# Altium footprint library TMP112AIDRLR.PcbLib: 1 footprints
Each footprint in its own frame and in the unit in brackets; x right, y up, seen from the top. Pads: shape width x height; smd on the part's side, far side on the other; paste and mask are expansions set on the pad; w line width, h text height; cw(c..) or ccw(c..) is an arc to the next point about the centre after c.
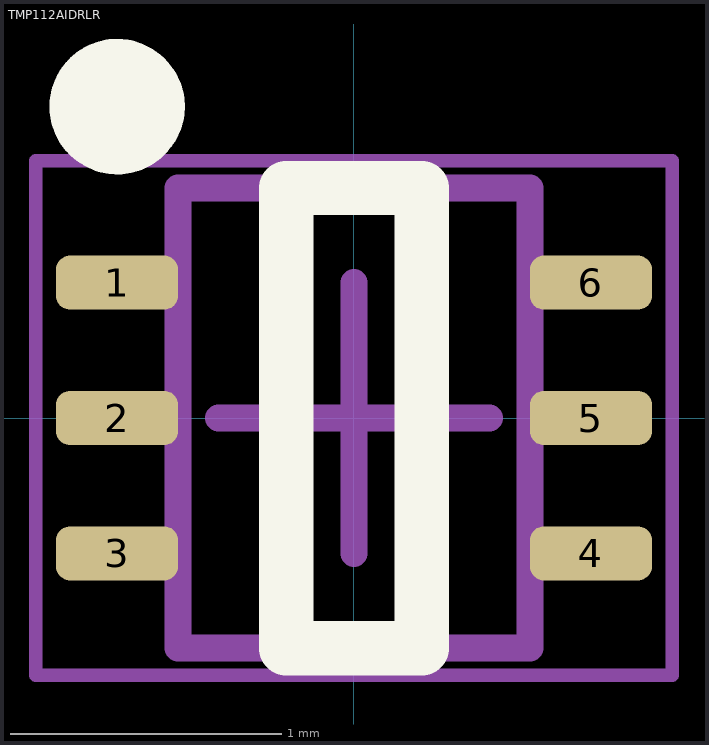
[diagram p0: the footprint, top view; thin cyan lines are the x and y axes]

## TMP112AIDRLR [mm] "Board Mount Temperature Sensors Hi-Prec Lo-Pwr Dig Temp Sensor"
pads (6):
  rrect50% 0.45x0.2 smd: 1(-0.875,0.5) 2(-0.875,0) 3(-0.875,-0.5) 4(0.875,-0.5) 5(0.875,0) 6(0.875,0.5)
Top Overlay:
  circle w0.25: c-0.875,1.15 r0.125
  lines w0.2: -0.25,-0.85 0.25,-0.85 0.25,0.85 -0.25,0.85 -0.25,-0.85
Mechanical 1:
  text ".Designator" at -0.508,-0.127 h0.3
Mechanical 13:
  lines w0.1: -0.65,-0.85 -0.65,0.85 0.65,0.85 0.65,-0.85 -0.65,-0.85
Mechanical 15:
  lines w0.05: -1.175,-0.95 -1.175,0.95 1.175,0.95 1.175,-0.95 -1.175,-0.95
  lines w0.1: -0.5,0 0.5,0 ; 0,-0.5 0,0.5
3D body: height 0.6, standoff 0, extent -0.65,-0.85 0.65,0.85